# Altium schematic symbol library Connectors.SchLib: 10 symbols
Pins are listed as number, name and electrical type; pins without a type are passive.

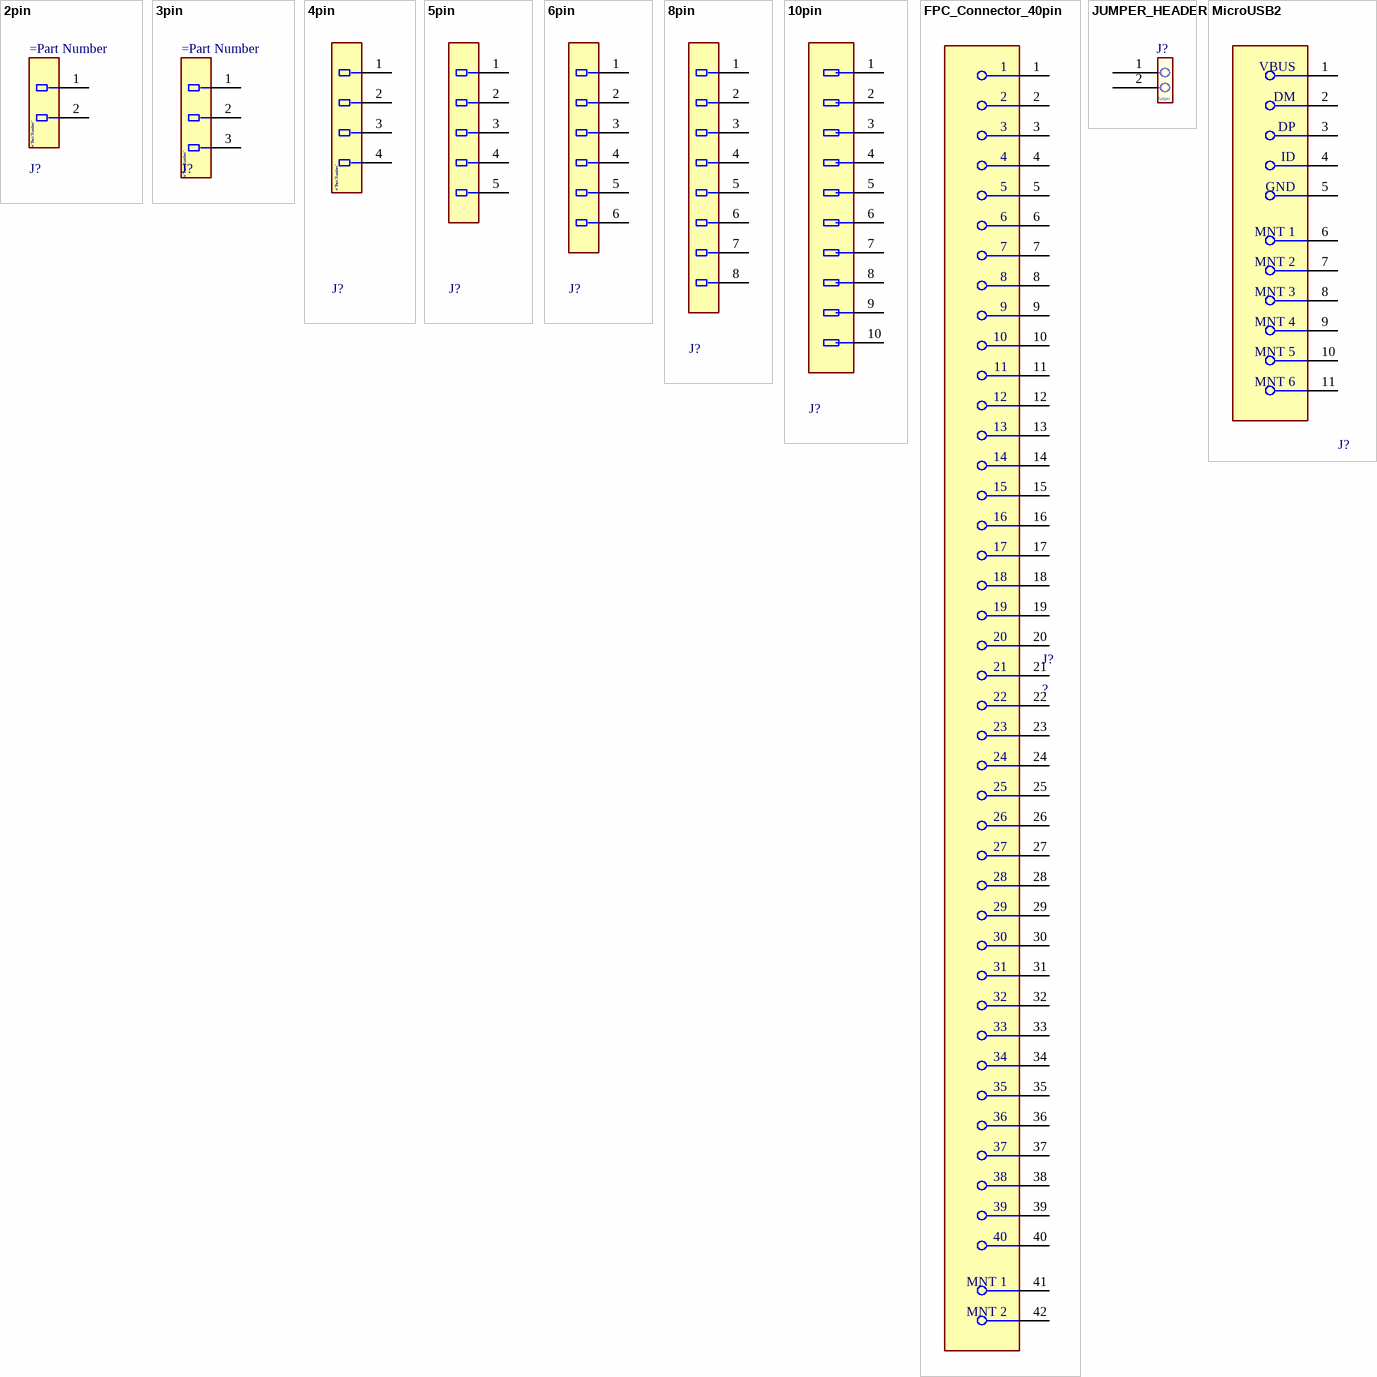
[diagram p0: symbols 2pin to MicroUSB2]

## 2pin
designator J?
pins: 1, 2

## 3pin
designator J?
pins: 1, 2, 3

## 4pin
designator J?
pins: 1, 2, 3, 4

## 5pin
designator J?
pins: 1, 2, 3, 4, 5

## 6pin
designator J?
pins: 1, 2, 3, 4, 5, 6

## 8pin
designator J?
pins: 1, 2, 3, 4, 5, 6, 7, 8

## 10pin
designator J?
pins: 1, 2, 3, 4, 5, 6, 7, 8, 9, 10

## FPC_Connector_40pin
designator J?, comment ?
pins: 1, 2, 3, 4, 5, 6, 7, 8, 9, 10, 11, 12, 13, 14, 15, 16, 17, 18, 19, 20, 21, 22, 23, 24, 25, 26, 27, 28, 29, 30, 31, 32, 33, 34, 35, 36, 37, 38, 39, 40, 41 MNT 1, 42 MNT 2

## JUMPER_HEADER
designator J?, comment Jumper  (value not drawn)
pins: 1, 2

## MicroUSB2
designator J?
pins: 1, 2, 3, 4, 5, 6 MNT 1, 7 MNT 2, 8 MNT 3, 9 MNT 4, 10 MNT 5, 11 MNT 6
text: VBUS; DM; DP; ID; GND